# EAGLE library part OPAMP-ST-LMV358ID (library Pygmy)
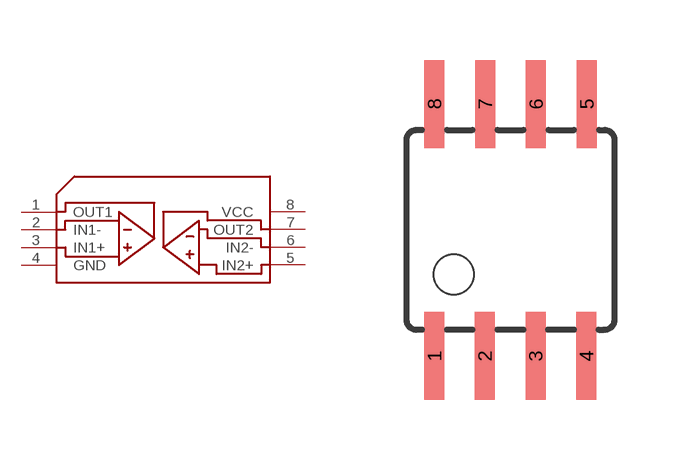
[diagram p47: symbol with the pads of SOIC8; footprint SOIC8]

Designator prefix -

## OPAMP-ST-LMV358ID  [SOIC8]
1  OUT1
2  IN1-
3  IN1+
4  GND
5  IN2+
6  IN2-
7  OUT2
8  VCC

## Footprint SOIC8 (pad centres in mm)
Wide Plastic Gull Wing Small Outline Package
smd 0.5 x 2.2: 1 -1.905,-3.154; 2 -0.645,-3.154; 3 0.625,-3.154; 4 1.895,-3.154; 5 1.905,3.154; 6 0.635,3.154; 7 -0.635,3.154; 8 -1.905,3.154